# Altium integrated library FPGA Generic.IntLib: 1651 symbols (part 19 of 20)
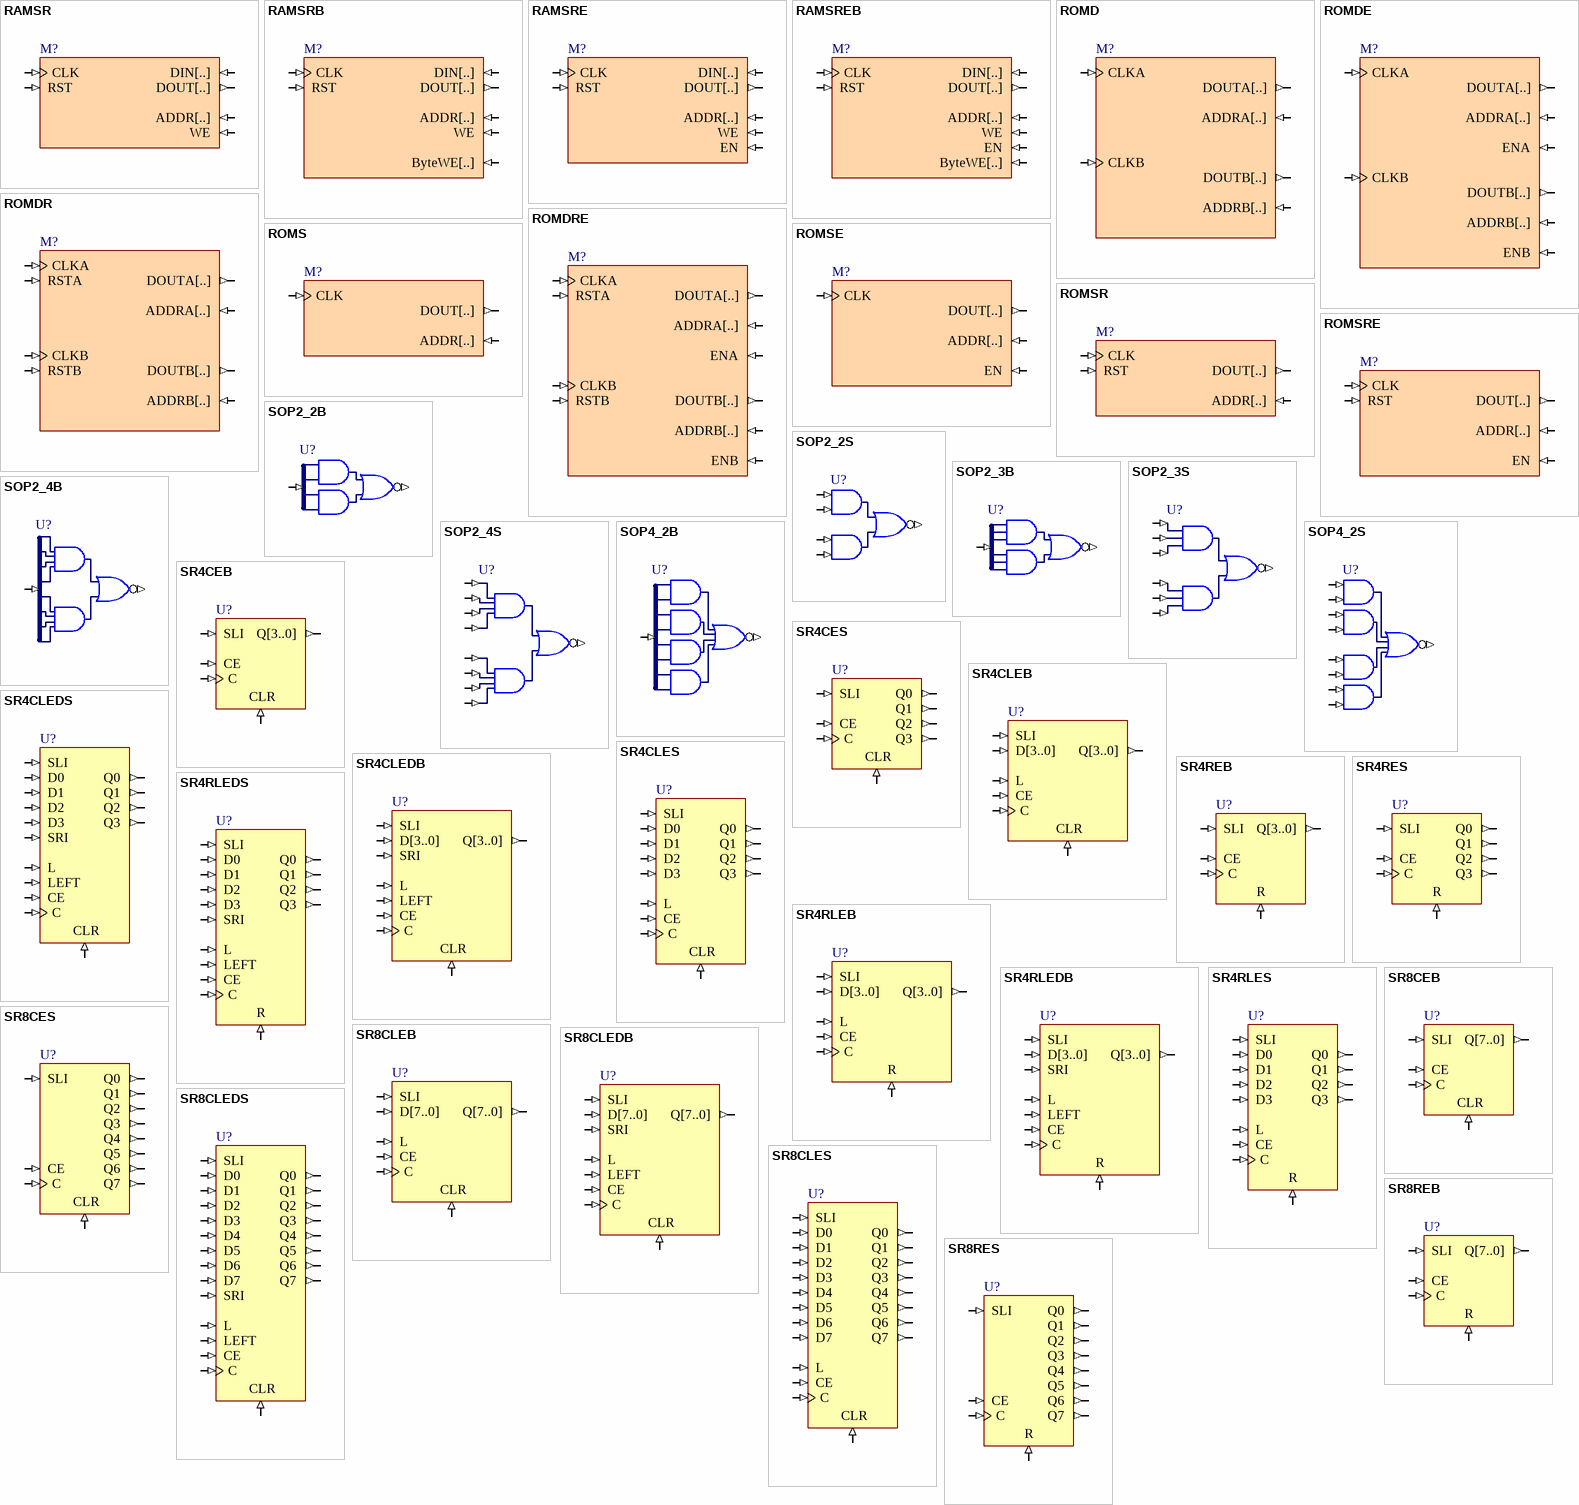
[diagram p61: symbols RAMSR to SR8RES]

## SR4CEB
designator U?
4-Bit Serial-In Parallel-Out Shift Registers with Clock Enable and Asynchronous Clear, Bus Version; ClockTrigger: Rising; Enable: High; PortSize: 4; ArchiveName: GENERIC; VHDLIB_SIM: GENERIC_LIB; Published: 29-Jan-2004; Publisher: Altium Limited; LastRevisionNo: 1.00.00; HelpURL: CR0118 FPGA Generic Library Guide.pdf#page=430; ComponentLink1URL: CR0141 FPGA Shift Register Resource Usage.pdf#page=2; ComponentLink1Description: Core &Resource Usage; FunctionalClass: Shift Register; Reset: Asynchronous; PortStyle: Bus Version
pins: C (in), CE (in), CLR (in), Q[3..0] (out), SLI (in)

## SR4CES
designator U?
4-Bit Serial-In Parallel-Out Shift Registers with Clock Enable and Asynchronous Clear, Single Pin Version; XilinxEquivalent: SR4CE; ClockTrigger: Rising; Enable: High; PortSize: 4; ArchiveName: GENERIC; VHDLIB_SIM: GENERIC_LIB; Published: 29-Jan-2004; Publisher: Altium Limited; LastRevisionNo: 1.00.00; HelpURL: CR0118 FPGA Generic Library Guide.pdf#page=430; ComponentLink1URL: CR0141 FPGA Shift Register Resource Usage.pdf#page=3; ComponentLink1Description: Core &Resource Usage; FunctionalClass: Shift Register; Reset: Asynchronous; PortStyle: Single Pin Version
pins: C (in), CE (in), CLR (in), Q0 (out), Q1 (out), Q2 (out), Q3 (out), SLI (in)

## SR4CLEB
designator U?
4-Bit Loadable Serial/Parallel-In Parallel-Out Shift Registers with Clock Enable and Asynchronous Clear, Bus Version; ClockTrigger: Rising; Enable: High; Loadable: True; PortSize: 4; ArchiveName: GENERIC; VHDLIB_SIM: GENERIC_LIB; Published: 29-Jan-2004; Publisher: Altium Limited; LastRevisionNo: 1.00.00; HelpURL: CR0118 FPGA Generic Library Guide.pdf#page=432; ComponentLink1URL: CR0141 FPGA Shift Register Resource Usage.pdf#page=4; ComponentLink1Description: Core &Resource Usage; FunctionalClass: Shift Register; Reset: Asynchronous; PortStyle: Bus Version
pins: C (in), CE (in), CLR (in), D[3..0] (in), L (in), Q[3..0] (out), SLI (in)

## SR4CLEDB
designator U?
4-Bit Loadable Serial/Parallel-In Parallel-Out Bidirectional Shift Registers with Clock Enable and Asynchronous Clear, Bus Version; ClockTrigger: Rising; Enable: High; Loadable: True; PortSize: 4; ArchiveName: GENERIC; VHDLIB_SIM: GENERIC_LIB; Published: 29-Jan-2004; Publisher: Altium Limited; LastRevisionNo: 1.00.00; HelpURL: CR0118 FPGA Generic Library Guide.pdf#page=434; ComponentLink1URL: CR0141 FPGA Shift Register Resource Usage.pdf#page=5; ComponentLink1Description: Core &Resource Usage; FunctionalClass: Shift Register; Reset: Asynchronous; Direction: Bidirectional; PortStyle: Bus Version
pins: C (in), CE (in), CLR (in), D[3..0] (in), L (in), LEFT (in), Q[3..0] (out), SLI (in), SRI (in)

## SR4CLEDS
designator U?
4-Bit Loadable Serial/Parallel-In Parallel-Out Bidirectional Shift Registers with Clock Enable and Asynchronous Clear, Single Pin Version; XilinxEquivalent: SR4CLED; ClockTrigger: Rising; Enable: High; Loadable: True; PortSize: 4; ArchiveName: GENERIC; VHDLIB_SIM: GENERIC_LIB; Published: 29-Jan-2004; Publisher: Altium Limited; LastRevisionNo: 1.00.00; HelpURL: CR0118 FPGA Generic Library Guide.pdf#page=434; ComponentLink1URL: CR0141 FPGA Shift Register Resource Usage.pdf#page=6; ComponentLink1Description: Core &Resource Usage; FunctionalClass: Shift Register; Reset: Asynchronous; Direction: Bidirectional; PortStyle: Single Pin Version
pins: C (in), CE (in), CLR (in), D0 (in), D1 (in), D2 (in), D3 (in), L (in), LEFT (in), Q0 (out), Q1 (out), Q2 (out), Q3 (out), SLI (in), SRI (in)

## SR4CLES
designator U?
4-Bit Loadable Serial/Parallel-In Parallel-Out Shift Registers with Clock Enable and Asynchronous Clear, Single Pin Version; XilinxEquivalent: SR4CLE; ClockTrigger: Rising; Enable: High; Loadable: True; PortSize: 4; ArchiveName: GENERIC; VHDLIB_SIM: GENERIC_LIB; Published: 29-Jan-2004; Publisher: Altium Limited; LastRevisionNo: 1.00.00; HelpURL: CR0118 FPGA Generic Library Guide.pdf#page=432; ComponentLink1URL: CR0141 FPGA Shift Register Resource Usage.pdf#page=7; ComponentLink1Description: Core &Resource Usage; FunctionalClass: Shift Register; Reset: Asynchronous; PortStyle: Single Pin Version
pins: C (in), CE (in), CLR (in), D0 (in), D1 (in), D2 (in), D3 (in), L (in), Q0 (out), Q1 (out), Q2 (out), Q3 (out), SLI (in)

## SR4REB
designator U?
4-Bit Serial-In Parallel-Out Shift Registers with Clock Enable and Synchronous Reset, Bus Version; ClockTrigger: Rising; Enable: High; PortSize: 4; ArchiveName: GENERIC; VHDLIB_SIM: GENERIC_LIB; Published: 29-Jan-2004; Publisher: Altium Limited; LastRevisionNo: 1.00.00; HelpURL: CR0118 FPGA Generic Library Guide.pdf#page=437; ComponentLink1URL: CR0141 FPGA Shift Register Resource Usage.pdf#page=8; ComponentLink1Description: Core &Resource Usage; FunctionalClass: Shift Register; Reset: Synchronous; PortStyle: Bus Version
pins: C (in), CE (in), Q[3..0] (out), R (in), SLI (in)

## SR4RES
designator U?
4-Bit Serial-In Parallel-Out Shift Registers with Clock Enable and Synchronous Reset, Single Pin Version; XilinxEquivalent: SR4RE; ClockTrigger: Rising; Enable: High; PortSize: 4; ArchiveName: GENERIC; VHDLIB_SIM: GENERIC_LIB; Published: 29-Jan-2004; Publisher: Altium Limited; LastRevisionNo: 1.00.00; HelpURL: CR0118 FPGA Generic Library Guide.pdf#page=437; ComponentLink1URL: CR0141 FPGA Shift Register Resource Usage.pdf#page=9; ComponentLink1Description: Core &Resource Usage; FunctionalClass: Shift Register; Reset: Synchronous; PortStyle: Single Pin Version
pins: C (in), CE (in), Q0 (out), Q1 (out), Q2 (out), Q3 (out), R (in), SLI (in)

## SR4RLEB
designator U?
4-Bit Loadable Serial/Parallel-In Parallel-Out Shift Registers with Clock Enable and Synchronous Reset, Bus Version; ClockTrigger: Rising; Enable: High; Loadable: True; PortSize: 4; ArchiveName: GENERIC; VHDLIB_SIM: GENERIC_LIB; Published: 29-Jan-2004; Publisher: Altium Limited; LastRevisionNo: 1.00.00; HelpURL: CR0118 FPGA Generic Library Guide.pdf#page=439; ComponentLink1URL: CR0141 FPGA Shift Register Resource Usage.pdf#page=10; ComponentLink1Description: Core &Resource Usage; FunctionalClass: Shift Register; Reset: Synchronous; PortStyle: Bus Version
pins: C (in), CE (in), D[3..0] (in), L (in), Q[3..0] (out), R (in), SLI (in)

## SR4RLEDB
designator U?
4-Bit Loadable Serial/Parallel-In Parallel-Out Bidirectional Shift Registers with Clock Enable and Synchronous Reset, Bus Version; ClockTrigger: Rising; Enable: High; Loadable: True; PortSize: 4; ArchiveName: GENERIC; VHDLIB_SIM: GENERIC_LIB; Published: 29-Jan-2004; Publisher: Altium Limited; LastRevisionNo: 1.00.00; HelpURL: CR0118 FPGA Generic Library Guide.pdf#page=441; ComponentLink1URL: CR0141 FPGA Shift Register Resource Usage.pdf#page=11; ComponentLink1Description: Core &Resource Usage; FunctionalClass: Shift Register; Reset: Synchronous; Direction: Bidirectional; PortStyle: Bus Version
pins: C (in), CE (in), D[3..0] (in), L (in), LEFT (in), Q[3..0] (out), R (in), SLI (in), SRI (in)

## SR4RLEDS
designator U?
4-Bit Loadable Serial/Parallel-In Parallel-Out Bidirectional Shift Registers with Clock Enable and Synchronous Reset, Single Pin Version; XilinxEquivalent: SR4RLED; ClockTrigger: Rising; Enable: High; Loadable: True; PortSize: 4; ArchiveName: GENERIC; VHDLIB_SIM: GENERIC_LIB; Published: 29-Jan-2004; Publisher: Altium Limited; LastRevisionNo: 1.00.00; HelpURL: CR0118 FPGA Generic Library Guide.pdf#page=441; ComponentLink1URL: CR0141 FPGA Shift Register Resource Usage.pdf#page=12; ComponentLink1Description: Core &Resource Usage; FunctionalClass: Shift Register; Reset: Synchronous; Direction: Bidirectional; PortStyle: Single Pin Version
pins: C (in), CE (in), D0 (in), D1 (in), D2 (in), D3 (in), L (in), LEFT (in), Q0 (out), Q1 (out), Q2 (out), Q3 (out), R (in), SLI (in), SRI (in)

## SR4RLES
designator U?
4-Bit Loadable Serial/Parallel-In Parallel-Out Shift Registers with Clock Enable and Synchronous Reset, Single Pin Version; XilinxEquivalent: SR4RLE; ClockTrigger: Rising; Enable: High; Loadable: True; PortSize: 4; ArchiveName: GENERIC; VHDLIB_SIM: GENERIC_LIB; Published: 29-Jan-2004; Publisher: Altium Limited; LastRevisionNo: 1.00.00; HelpURL: CR0118 FPGA Generic Library Guide.pdf#page=439; ComponentLink1URL: CR0141 FPGA Shift Register Resource Usage.pdf#page=13; ComponentLink1Description: Core &Resource Usage; FunctionalClass: Shift Register; Reset: Synchronous; PortStyle: Single Pin Version
pins: C (in), CE (in), D0 (in), D1 (in), D2 (in), D3 (in), L (in), Q0 (out), Q1 (out), Q2 (out), Q3 (out), R (in), SLI (in)

## SR8CEB
designator U?
8-Bit Serial-In Parallel-Out Shift Registers with Clock Enable and Asynchronous Clear, Bus Version; XilinxEquivalent: SR8CE; ClockTrigger: Rising; Enable: High; PortSize: 8; ArchiveName: GENERIC; VHDLIB_SIM: GENERIC_LIB; Published: 29-Jan-2004; Publisher: Altium Limited; LastRevisionNo: 1.00.00; HelpURL: CR0118 FPGA Generic Library Guide.pdf#page=430; ComponentLink1URL: CR0141 FPGA Shift Register Resource Usage.pdf#page=14; ComponentLink1Description: Core &Resource Usage; FunctionalClass: Shift Register; Reset: Asynchronous; PortStyle: Bus Version
pins: C (in), CE (in), CLR (in), Q[7..0] (out), SLI (in)

## SR8CES
designator U?
8-Bit Serial-In Parallel-Out Shift Registers with Clock Enable and Asynchronous Clear, Single Pin  Version; ClockTrigger: Rising; Enable: High; PortSize: 8; ArchiveName: GENERIC; VHDLIB_SIM: GENERIC_LIB; Published: 29-Jan-2004; Publisher: Altium Limited; LastRevisionNo: 1.00.00; HelpURL: CR0118 FPGA Generic Library Guide.pdf#page=430; ComponentLink1URL: CR0141 FPGA Shift Register Resource Usage.pdf#page=15; ComponentLink1Description: Core &Resource Usage; FunctionalClass: Shift Register; Reset: Asynchronous; PortStyle: Single Pin Version
pins: C (in), CE (in), CLR (in), Q0 (out), Q1 (out), Q2 (out), Q3 (out), Q4 (out), Q5 (out), Q6 (out), Q7 (out), SLI (in)

## SR8CLEB
designator U?
8-Bit Loadable Serial/Parallel-In Parallel-Out Shift Registers with Clock Enable and Asynchronous Clear, Bus Version; XilinxEquivalent: SR8CLE; ClockTrigger: Rising; Enable: High; Loadable: True; PortSize: 8; ArchiveName: GENERIC; VHDLIB_SIM: GENERIC_LIB; Published: 29-Jan-2004; Publisher: Altium Limited; LastRevisionNo: 1.00.00; HelpURL: CR0118 FPGA Generic Library Guide.pdf#page=432; ComponentLink1URL: CR0141 FPGA Shift Register Resource Usage.pdf#page=16; ComponentLink1Description: Core &Resource Usage; FunctionalClass: Shift Register; Reset: Asynchronous; PortStyle: Bus Version
pins: C (in), CE (in), CLR (in), D[7..0] (in), L (in), Q[7..0] (out), SLI (in)

## SR8CLEDB
designator U?
8-Bit Loadable Serial/Parallel-In Parallel-Out Bidirectional Shift Registers with Clock Enable and Asynchronous Clear, Bus Version; XilinxEquivalent: SR8CLED; ClockTrigger: Rising; Enable: High; Loadable: True; PortSize: 8; ArchiveName: GENERIC; VHDLIB_SIM: GENERIC_LIB; Published: 29-Jan-2004; Publisher: Altium Limited; LastRevisionNo: 1.00.00; HelpURL: CR0118 FPGA Generic Library Guide.pdf#page=434; ComponentLink1URL: CR0141 FPGA Shift Register Resource Usage.pdf#page=17; ComponentLink1Description: Core &Resource Usage; FunctionalClass: Shift Register; Reset: Asynchronous; Direction: Bidirectional; PortStyle: Bus Version
pins: C (in), CE (in), CLR (in), D[7..0] (in), L (in), LEFT (in), Q[7..0] (out), SLI (in), SRI (in)

## SR8CLEDS
designator U?
8-Bit Loadable Serial/Parallel-In Parallel-Out Bidirectional Shift Registers with Clock Enable and Asynchronous Clear, Single Pin Version; ClockTrigger: Rising; Enable: High; Loadable: True; PortSize: 8; ArchiveName: GENERIC; VHDLIB_SIM: GENERIC_LIB; Published: 29-Jan-2004; Publisher: Altium Limited; LastRevisionNo: 1.00.00; HelpURL: CR0118 FPGA Generic Library Guide.pdf#page=434; ComponentLink1URL: CR0141 FPGA Shift Register Resource Usage.pdf#page=18; ComponentLink1Description: Core &Resource Usage; FunctionalClass: Shift Register; Reset: Asynchronous; Direction: Bidirectional; PortStyle: Single Pin Version
pins: C (in), CE (in), CLR (in), D0 (in), D1 (in), D2 (in), D3 (in), D4 (in), D5 (in), D6 (in), D7 (in), L (in), LEFT (in), Q0 (out), Q1 (out), Q2 (out), Q3 (out), Q4 (out), Q5 (out), Q6 (out), Q7 (out), SLI (in), SRI (in)

## SR8CLES
designator U?
8-Bit Loadable Serial/Parallel-In Parallel-Out Shift Registers with Clock Enable and Asynchronous Clear, Single Pin Version; ClockTrigger: Rising; Enable: High; Loadable: True; PortSize: 8; ArchiveName: GENERIC; VHDLIB_SIM: GENERIC_LIB; Published: 29-Jan-2004; Publisher: Altium Limited; LastRevisionNo: 1.00.00; HelpURL: CR0118 FPGA Generic Library Guide.pdf#page=432; ComponentLink1URL: CR0141 FPGA Shift Register Resource Usage.pdf#page=19; ComponentLink1Description: Core &Resource Usage; FunctionalClass: Shift Register; Reset: Asynchronous; PortStyle: Single Pin Version
pins: C (in), CE (in), CLR (in), D0 (in), D1 (in), D2 (in), D3 (in), D4 (in), D5 (in), D6 (in), D7 (in), L (in), Q0 (out), Q1 (out), Q2 (out), Q3 (out), Q4 (out), Q5 (out), Q6 (out), Q7 (out), SLI (in)

## SR8REB
designator U?
8-Bit Serial-In Parallel-Out Shift Registers with Clock Enable and Synchronous Reset, Bus Version; XilinxEquivalent: SR8RE; ClockTrigger: Rising; Enable: High; PortSize: 8; ArchiveName: GENERIC; VHDLIB_SIM: GENERIC_LIB; Published: 29-Jan-2004; Publisher: Altium Limited; LastRevisionNo: 1.00.00; HelpURL: CR0118 FPGA Generic Library Guide.pdf#page=437; ComponentLink1URL: CR0141 FPGA Shift Register Resource Usage.pdf#page=20; ComponentLink1Description: Core &Resource Usage; FunctionalClass: Shift Register; Reset: Synchronous; PortStyle: Bus Version
pins: C (in), CE (in), Q[7..0] (out), R (in), SLI (in)

## SR8RES
designator U?
8-Bit Serial-In Parallel-Out Shift Registers with Clock Enable and Synchronous Reset, Single Pin Version; ClockTrigger: Rising; Enable: High; PortSize: 8; ArchiveName: GENERIC; VHDLIB_SIM: GENERIC_LIB; Published: 29-Jan-2004; Publisher: Altium Limited; LastRevisionNo: 1.00.00; HelpURL: CR0118 FPGA Generic Library Guide.pdf#page=437; ComponentLink1URL: CR0141 FPGA Shift Register Resource Usage.pdf#page=21; ComponentLink1Description: Core &Resource Usage; FunctionalClass: Shift Register; Reset: Synchronous; PortStyle: Single Pin Version
pins: C (in), CE (in), Q0 (out), Q1 (out), Q2 (out), Q3 (out), Q4 (out), Q5 (out), Q6 (out), Q7 (out), R (in), SLI (in)

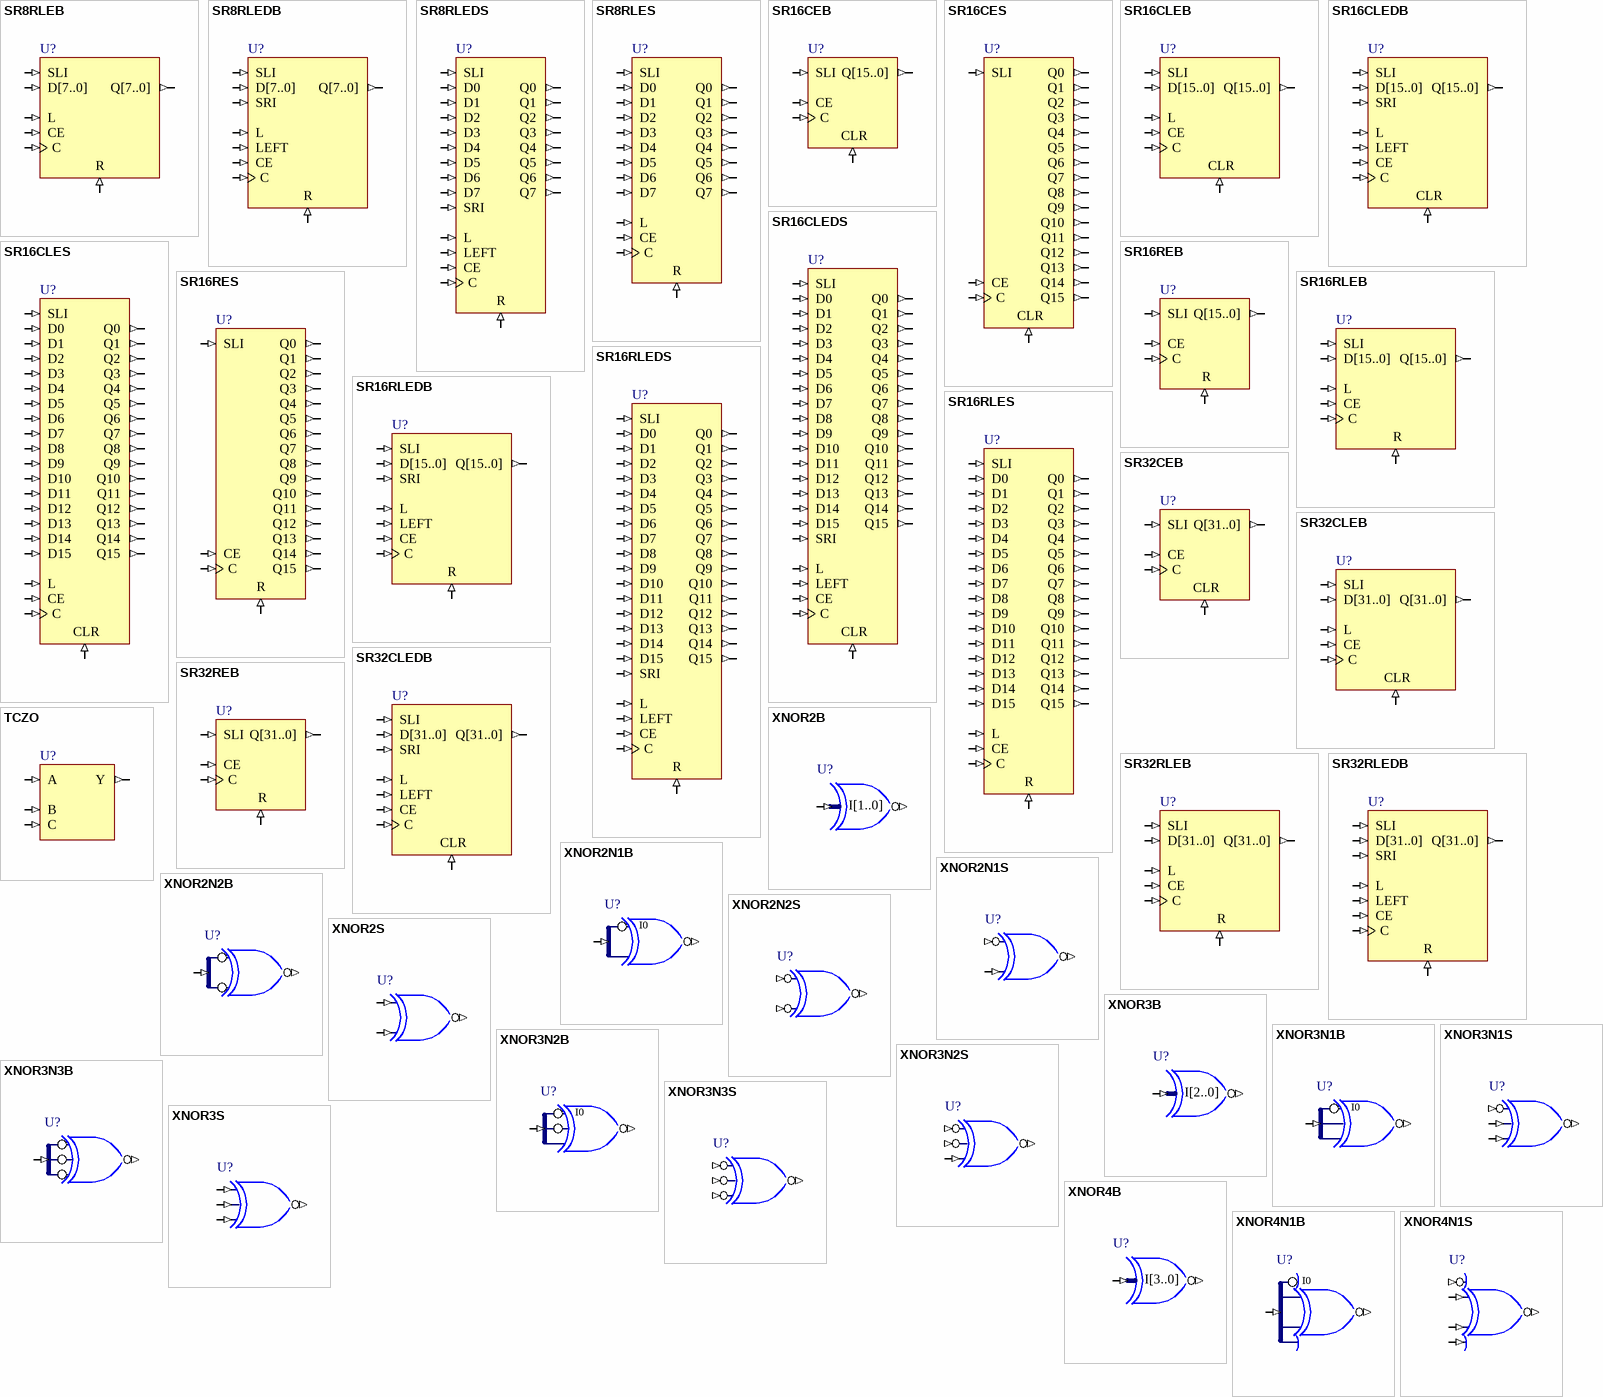
[diagram p40: symbols SR8RLEB to XNOR4N1S]

## SR8RLEB
designator U?
8-Bit Loadable Serial/Parallel-In Parallel-Out Shift Registers with Clock Enable and Synchronous Reset, Bus Version; XilinxEquivalent: SR8RLE; ClockTrigger: Rising; Enable: High; Loadable: True; PortSize: 8; ArchiveName: GENERIC; VHDLIB_SIM: GENERIC_LIB; Published: 29-Jan-2004; Publisher: Altium Limited; LastRevisionNo: 1.00.00; HelpURL: CR0118 FPGA Generic Library Guide.pdf#page=439; ComponentLink1URL: CR0141 FPGA Shift Register Resource Usage.pdf#page=22; ComponentLink1Description: Core &Resource Usage; FunctionalClass: Shift Register; Reset: Synchronous; PortStyle: Bus Version
pins: C (in), CE (in), D[7..0] (in), L (in), Q[7..0] (out), R (in), SLI (in)

## SR8RLEDB
designator U?
8-Bit Loadable Serial/Parallel-In Parallel-Out Bidirectional Shift Registers with Clock Enable and Synchronous Reset, Bus Version; XilinxEquivalent: SR8RLED; ClockTrigger: Rising; Enable: High; Loadable: True; PortSize: 8; ArchiveName: GENERIC; VHDLIB_SIM: GENERIC_LIB; Published: 29-Jan-2004; Publisher: Altium Limited; LastRevisionNo: 1.00.00; HelpURL: CR0118 FPGA Generic Library Guide.pdf#page=441; ComponentLink1URL: CR0141 FPGA Shift Register Resource Usage.pdf#page=23; ComponentLink1Description: Core &Resource Usage; FunctionalClass: Shift Register; Reset: Synchronous; Direction: Bidirectional; PortStyle: Bus Version
pins: C (in), CE (in), D[7..0] (in), L (in), LEFT (in), Q[7..0] (out), R (in), SLI (in), SRI (in)

## SR8RLEDS
designator U?
8-Bit Loadable Serial/Parallel-In Parallel-Out Bidirectional Shift Registers with Clock Enable and Synchronous Reset, Single Pin Version; ClockTrigger: Rising; Enable: High; Loadable: True; PortSize: 8; ArchiveName: GENERIC; VHDLIB_SIM: GENERIC_LIB; Published: 29-Jan-2004; Publisher: Altium Limited; LastRevisionNo: 1.00.00; HelpURL: CR0118 FPGA Generic Library Guide.pdf#page=441; ComponentLink1URL: CR0141 FPGA Shift Register Resource Usage.pdf#page=24; ComponentLink1Description: Core &Resource Usage; FunctionalClass: Shift Register; Reset: Synchronous; Direction: Bidirectional; PortStyle: Single Pin Version
pins: C (in), CE (in), D0 (in), D1 (in), D2 (in), D3 (in), D4 (in), D5 (in), D6 (in), D7 (in), L (in), LEFT (in), Q0 (out), Q1 (out), Q2 (out), Q3 (out), Q4 (out), Q5 (out), Q6 (out), Q7 (out), R (in), SLI (in), SRI (in)

## SR8RLES
designator U?
8-Bit Loadable Serial/Parallel-In Parallel-Out Shift Registers with Clock Enable and Synchronous Reset, Single Pin Version; ClockTrigger: Rising; Enable: High; Loadable: True; PortSize: 8; ArchiveName: GENERIC; VHDLIB_SIM: GENERIC_LIB; Published: 29-Jan-2004; Publisher: Altium Limited; LastRevisionNo: 1.00.00; HelpURL: CR0118 FPGA Generic Library Guide.pdf#page=439; ComponentLink1URL: CR0141 FPGA Shift Register Resource Usage.pdf#page=25; ComponentLink1Description: Core &Resource Usage; FunctionalClass: Shift Register; Reset: Synchronous; PortStyle: Single Pin Version
pins: C (in), CE (in), D0 (in), D1 (in), D2 (in), D3 (in), D4 (in), D5 (in), D6 (in), D7 (in), L (in), Q0 (out), Q1 (out), Q2 (out), Q3 (out), Q4 (out), Q5 (out), Q6 (out), Q7 (out), R (in), SLI (in)

## SR16CEB
designator U?
16-Bit Serial-In Parallel-Out Shift Registers with Clock Enable and Asynchronous Clear, Bus Version; XilinxEquivalent: SR16CE; ClockTrigger: Rising; Enable: High; PortSize: 16; ArchiveName: GENERIC; VHDLIB_SIM: GENERIC_LIB; Published: 29-Jan-2004; Publisher: Altium Limited; LastRevisionNo: 1.00.00; HelpURL: CR0118 FPGA Generic Library Guide.pdf#page=430; ComponentLink1URL: CR0141 FPGA Shift Register Resource Usage.pdf#page=26; ComponentLink1Description: Core &Resource Usage; FunctionalClass: Shift Register; Reset: Asynchronous; PortStyle: Bus Version
pins: C (in), CE (in), CLR (in), Q[15..0] (out), SLI (in)

## SR16CES
designator U?
16-Bit Serial-In Parallel-Out Shift Registers with Clock Enable and Asynchronous Clear, Single Pin Version; ClockTrigger: Rising; Enable: High; PortSize: 16; ArchiveName: GENERIC; VHDLIB_SIM: GENERIC_LIB; Published: 29-Jan-2004; Publisher: Altium Limited; LastRevisionNo: 1.00.00; HelpURL: CR0118 FPGA Generic Library Guide.pdf#page=430; ComponentLink1URL: CR0141 FPGA Shift Register Resource Usage.pdf#page=27; ComponentLink1Description: Core &Resource Usage; FunctionalClass: Shift Register; Reset: Asynchronous; PortStyle: Single Pin Version
pins: C (in), CE (in), CLR (in), Q0 (out), Q1 (out), Q2 (out), Q3 (out), Q4 (out), Q5 (out), Q6 (out), Q7 (out), Q8 (out), Q9 (out), Q10 (out), Q11 (out), Q12 (out), Q13 (out), Q14 (out), Q15 (out), SLI (in)

## SR16CLEB
designator U?
16-Bit Loadable Serial/Parallel-In Parallel-Out Shift Registers with Clock Enable and Asynchronous Clear, Bus Version; XilinxEquivalent: SR16CLE; ClockTrigger: Rising; Enable: High; Loadable: True; PortSize: 16; ArchiveName: GENERIC; VHDLIB_SIM: GENERIC_LIB; Published: 29-Jan-2004; Publisher: Altium Limited; LastRevisionNo: 1.00.00; HelpURL: CR0118 FPGA Generic Library Guide.pdf#page=432; ComponentLink1URL: CR0141 FPGA Shift Register Resource Usage.pdf#page=28; ComponentLink1Description: Core &Resource Usage; FunctionalClass: Shift Register; Reset: Asynchronous; PortStyle: Bus Version
pins: C (in), CE (in), CLR (in), D[15..0] (in), L (in), Q[15..0] (out), SLI (in)

## SR16CLEDB
designator U?
16-Bit Loadable Serial/Parallel-In Parallel-Out Bidirectional Shift Registers with Clock Enable and Asynchronous Clear, Bus Version; XilinxEquivalent: SR16CLED; ClockTrigger: Rising; Enable: High; Loadable: True; PortSize: 16; ArchiveName: GENERIC; VHDLIB_SIM: GENERIC_LIB; Published: 29-Jan-2004; Publisher: Altium Limited; LastRevisionNo: 1.00.00; HelpURL: CR0118 FPGA Generic Library Guide.pdf#page=434; ComponentLink1URL: CR0141 FPGA Shift Register Resource Usage.pdf#page=29; ComponentLink1Description: Core &Resource Usage; FunctionalClass: Shift Register; Reset: Asynchronous; Direction: Bidirectional; PortStyle: Bus Version
pins: C (in), CE (in), CLR (in), D[15..0] (in), L (in), LEFT (in), Q[15..0] (out), SLI (in), SRI (in)

## SR16CLEDS
designator U?
16-Bit Loadable Serial/Parallel-In Parallel-Out Bidirectional Shift Registers with Clock Enable and Asynchronous Clear, Single Pin Version; ClockTrigger: Rising; Enable: High; Loadable: True; PortSize: 16; ArchiveName: GENERIC; VHDLIB_SIM: GENERIC_LIB; Published: 29-Jan-2004; Publisher: Altium Limited; LastRevisionNo: 1.00.00; HelpURL: CR0118 FPGA Generic Library Guide.pdf#page=434; ComponentLink1URL: CR0141 FPGA Shift Register Resource Usage.pdf#page=30; ComponentLink1Description: Core &Resource Usage; FunctionalClass: Shift Register; Reset: Asynchronous; Direction: Bidirectional; PortStyle: Single Pin Version
pins: C (in), CE (in), CLR (in), D0 (in), D1 (in), D2 (in), D3 (in), D4 (in), D5 (in), D6 (in), D7 (in), D8 (in), D9 (in), D10 (in), D11 (in), D12 (in), D13 (in), D14 (in), D15 (in), L (in), LEFT (in), Q0 (out), Q1 (out), Q2 (out), Q3 (out), Q4 (out), Q5 (out), Q6 (out), Q7 (out), Q8 (out), Q9 (out), Q10 (out), Q11 (out), Q12 (out), Q13 (out), Q14 (out), Q15 (out), SLI (in), SRI (in)

## SR16CLES
designator U?
16-Bit Loadable Serial/Parallel-In Parallel-Out Shift Registers with Clock Enable and Asynchronous Clear, Single Pin Version; ClockTrigger: Rising; Enable: High; Loadable: True; PortSize: 16; ArchiveName: GENERIC; VHDLIB_SIM: GENERIC_LIB; Published: 29-Jan-2004; Publisher: Altium Limited; LastRevisionNo: 1.00.00; HelpURL: CR0118 FPGA Generic Library Guide.pdf#page=432; ComponentLink1URL: CR0141 FPGA Shift Register Resource Usage.pdf#page=31; ComponentLink1Description: Core &Resource Usage; FunctionalClass: Shift Register; Reset: Asynchronous; PortStyle: Single Pin Version
pins: C (in), CE (in), CLR (in), D0 (in), D1 (in), D2 (in), D3 (in), D4 (in), D5 (in), D6 (in), D7 (in), D8 (in), D9 (in), D10 (in), D11 (in), D12 (in), D13 (in), D14 (in), D15 (in), L (in), Q0 (out), Q1 (out), Q2 (out), Q3 (out), Q4 (out), Q5 (out), Q6 (out), Q7 (out), Q8 (out), Q9 (out), Q10 (out), Q11 (out), Q12 (out), Q13 (out), Q14 (out), Q15 (out), SLI (in)

## SR16REB
designator U?
16-Bit Serial-In Parallel-Out Shift Registers with Clock Enable and Synchronous Reset, Bus Version; XilinxEquivalent: SR16RE; ClockTrigger: Rising; Enable: High; PortSize: 16; ArchiveName: GENERIC; VHDLIB_SIM: GENERIC_LIB; Published: 29-Jan-2004; Publisher: Altium Limited; LastRevisionNo: 1.00.00; HelpURL: CR0118 FPGA Generic Library Guide.pdf#page=437; ComponentLink1URL: CR0141 FPGA Shift Register Resource Usage.pdf#page=32; ComponentLink1Description: Core &Resource Usage; FunctionalClass: Shift Register; Reset: Synchronous; PortStyle: Bus Version
pins: C (in), CE (in), Q[15..0] (out), R (in), SLI (in)

## SR16RES
designator U?
16-Bit Serial-In Parallel-Out Shift Registers with Clock Enable and Synchronous Reset, Single Pin Version; ClockTrigger: Rising; Enable: High; PortSize: 16; ArchiveName: GENERIC; VHDLIB_SIM: GENERIC_LIB; Published: 29-Jan-2004; Publisher: Altium Limited; LastRevisionNo: 1.00.00; HelpURL: CR0118 FPGA Generic Library Guide.pdf#page=437; ComponentLink1URL: CR0141 FPGA Shift Register Resource Usage.pdf#page=33; ComponentLink1Description: Core &Resource Usage; FunctionalClass: Shift Register; Reset: Synchronous; PortStyle: Single Pin Version
pins: C (in), CE (in), Q0 (out), Q1 (out), Q2 (out), Q3 (out), Q4 (out), Q5 (out), Q6 (out), Q7 (out), Q8 (out), Q9 (out), Q10 (out), Q11 (out), Q12 (out), Q13 (out), Q14 (out), Q15 (out), R (in), SLI (in)

## SR16RLEB
designator U?
16-Bit Loadable Serial/Parallel-In Parallel-Out Shift Registers with Clock Enable and Synchronous Reset, Bus Version; XilinxEquivalent: SR16RLE; ClockTrigger: Rising; Enable: High; Loadable: True; PortSize: 16; ArchiveName: GENERIC; VHDLIB_SIM: GENERIC_LIB; Published: 29-Jan-2004; Publisher: Altium Limited; LastRevisionNo: 1.00.00; HelpURL: CR0118 FPGA Generic Library Guide.pdf#page=439; ComponentLink1URL: CR0141 FPGA Shift Register Resource Usage.pdf#page=34; ComponentLink1Description: Core &Resource Usage; FunctionalClass: Shift Register; Reset: Synchronous; PortStyle: Bus Version
pins: C (in), CE (in), D[15..0] (in), L (in), Q[15..0] (out), R (in), SLI (in)

## SR16RLEDB
designator U?
16-Bit Loadable Serial/Parallel-In Parallel-Out Bidirectional Shift Registers with Clock Enable and Synchronous Reset, Bus Version; XilinxEquivalent: SR16RLED; ClockTrigger: Rising; Enable: High; Loadable: True; PortSize: 16; ArchiveName: GENERIC; VHDLIB_SIM: GENERIC_LIB; Published: 29-Jan-2004; Publisher: Altium Limited; LastRevisionNo: 1.00.00; HelpURL: CR0118 FPGA Generic Library Guide.pdf#page=441; ComponentLink1URL: CR0141 FPGA Shift Register Resource Usage.pdf#page=35; ComponentLink1Description: Core &Resource Usage; FunctionalClass: Shift Register; Reset: Synchronous; Direction: Bidirectional; PortStyle: Bus Version
pins: C (in), CE (in), D[15..0] (in), L (in), LEFT (in), Q[15..0] (out), R (in), SLI (in), SRI (in)

## SR16RLEDS
designator U?
16-Bit Loadable Serial/Parallel-In Parallel-Out Bidirectional Shift Registers with Clock Enable and Synchronous Reset, Single Pin Version; ClockTrigger: Rising; Enable: High; Loadable: True; PortSize: 16; ArchiveName: GENERIC; VHDLIB_SIM: GENERIC_LIB; Published: 29-Jan-2004; Publisher: Altium Limited; LastRevisionNo: 1.00.00; HelpURL: CR0118 FPGA Generic Library Guide.pdf#page=441; ComponentLink1URL: CR0141 FPGA Shift Register Resource Usage.pdf#page=36; ComponentLink1Description: Core &Resource Usage; FunctionalClass: Shift Register; Reset: Synchronous; Direction: Bidirectional; PortStyle: Single Pin Version
pins: C (in), CE (in), D0 (in), D1 (in), D2 (in), D3 (in), D4 (in), D5 (in), D6 (in), D7 (in), D8 (in), D9 (in), D10 (in), D11 (in), D12 (in), D13 (in), D14 (in), D15 (in), L (in), LEFT (in), Q0 (out), Q1 (out), Q2 (out), Q3 (out), Q4 (out), Q5 (out), Q6 (out), Q7 (out), Q8 (out), Q9 (out), Q10 (out), Q11 (out), Q12 (out), Q13 (out), Q14 (out), Q15 (out), R (in), SLI (in), SRI (in)

## SR16RLES
designator U?
16-Bit Loadable Serial/Parallel-In Parallel-Out Shift Registers with Clock Enable and Synchronous Reset, Single Pin Version; ClockTrigger: Rising; Enable: High; Loadable: True; PortSize: 16; ArchiveName: GENERIC; VHDLIB_SIM: GENERIC_LIB; Published: 29-Jan-2004; Publisher: Altium Limited; LastRevisionNo: 1.00.00; HelpURL: CR0118 FPGA Generic Library Guide.pdf#page=439; ComponentLink1URL: CR0141 FPGA Shift Register Resource Usage.pdf#page=37; ComponentLink1Description: Core &Resource Usage; FunctionalClass: Shift Register; Reset: Synchronous; PortStyle: Single Pin Version
pins: C (in), CE (in), D0 (in), D1 (in), D2 (in), D3 (in), D4 (in), D5 (in), D6 (in), D7 (in), D8 (in), D9 (in), D10 (in), D11 (in), D12 (in), D13 (in), D14 (in), D15 (in), L (in), Q0 (out), Q1 (out), Q2 (out), Q3 (out), Q4 (out), Q5 (out), Q6 (out), Q7 (out), Q8 (out), Q9 (out), Q10 (out), Q11 (out), Q12 (out), Q13 (out), Q14 (out), Q15 (out), R (in), SLI (in)

## SR32CEB
designator U?
32-Bit Serial-In Parallel-Out Shift Registers with Clock Enable and Asynchronous Clear, Bus Version; ClockTrigger: Rising; Enable: High; PortSize: 32; ArchiveName: GENERIC; VHDLIB_SIM: GENERIC_LIB; Published: 31-May-2004; Publisher: Altium Limited; LastRevisionNo: 1.00.00; HelpURL: CR0118 FPGA Generic Library Guide.pdf#page=430; ComponentLink1URL: CR0141 FPGA Shift Register Resource Usage.pdf#page=38; ComponentLink1Description: Core &Resource Usage; FunctionalClass: Shift Register; Reset: Asynchronous; PortStyle: Bus Version
pins: C (in), CE (in), CLR (in), Q[31..0] (out), SLI (in)

## SR32CLEB
designator U?
32-Bit Loadable Serial/Parallel-In Parallel-Out Shift Registers with Clock Enable and Asynchronous Clear, Bus Version; ClockTrigger: Rising; Enable: High; Loadable: True; PortSize: 32; ArchiveName: GENERIC; VHDLIB_SIM: GENERIC_LIB; Published: 31-May-2004; Publisher: Altium Limited; LastRevisionNo: 1.00.00; HelpURL: CR0118 FPGA Generic Library Guide.pdf#page=432; ComponentLink1URL: CR0141 FPGA Shift Register Resource Usage.pdf#page=39; ComponentLink1Description: Core &Resource Usage; FunctionalClass: Shift Register; Reset: Asynchronous; PortStyle: Bus Version
pins: C (in), CE (in), CLR (in), D[31..0] (in), L (in), Q[31..0] (out), SLI (in)

## SR32CLEDB
designator U?
32-Bit Loadable Serial/Parallel-In Parallel-Out Bidirectional Shift Registers with Clock Enable and Asynchronous Clear, Bus Version; ClockTrigger: Rising; Enable: High; Loadable: True; PortSize: 32; ArchiveName: GENERIC; VHDLIB_SIM: GENERIC_LIB; Published: 31-May-2004; Publisher: Altium Limited; LastRevisionNo: 1.00.00; HelpURL: CR0118 FPGA Generic Library Guide.pdf#page=434; ComponentLink1URL: CR0141 FPGA Shift Register Resource Usage.pdf#page=40; ComponentLink1Description: Core &Resource Usage; FunctionalClass: Shift Register; Reset: Asynchronous; Direction: Bidirectional; PortStyle: Bus Version
pins: C (in), CE (in), CLR (in), D[31..0] (in), L (in), LEFT (in), Q[31..0] (out), SLI (in), SRI (in)

## SR32REB
designator U?
32-Bit Serial-In Parallel-Out Shift Registers with Clock Enable and Synchronous Reset, Bus Version; ClockTrigger: Rising; Enable: High; PortSize: 32; ArchiveName: GENERIC; VHDLIB_SIM: GENERIC_LIB; Published: 31-May-2004; Publisher: Altium Limited; LastRevisionNo: 1.00.00; HelpURL: CR0118 FPGA Generic Library Guide.pdf#page=437; ComponentLink1URL: CR0141 FPGA Shift Register Resource Usage.pdf#page=41; ComponentLink1Description: Core &Resource Usage; FunctionalClass: Shift Register; Reset: Synchronous; PortStyle: Bus Version
pins: C (in), CE (in), Q[31..0] (out), R (in), SLI (in)

## SR32RLEB
designator U?
32-Bit Loadable Serial/Parallel-In Parallel-Out Shift Registers with Clock Enable and Synchronous Reset, Bus Version; ClockTrigger: Rising; Enable: High; Loadable: True; PortSize: 32; ArchiveName: GENERIC; VHDLIB_SIM: GENERIC_LIB; Published: 31-May-2004; Publisher: Altium Limited; LastRevisionNo: 1.00.00; HelpURL: CR0118 FPGA Generic Library Guide.pdf#page=439; ComponentLink1URL: CR0141 FPGA Shift Register Resource Usage.pdf#page=42; ComponentLink1Description: Core &Resource Usage; FunctionalClass: Shift Register; Reset: Synchronous; PortStyle: Bus Version
pins: C (in), CE (in), D[31..0] (in), L (in), Q[31..0] (out), R (in), SLI (in)

## SR32RLEDB
designator U?
32-Bit Loadable Serial/Parallel-In Parallel-Out Bidirectional Shift Registers with Clock Enable and Synchronous Reset, Bus Version; ClockTrigger: Rising; Enable: High; Loadable: True; PortSize: 32; ArchiveName: GENERIC; VHDLIB_SIM: GENERIC_LIB; Published: 31-May-2004; Publisher: Altium Limited; LastRevisionNo: 1.00.00; HelpURL: CR0118 FPGA Generic Library Guide.pdf#page=441; ComponentLink1URL: CR0141 FPGA Shift Register Resource Usage.pdf#page=43; ComponentLink1Description: Core &Resource Usage; FunctionalClass: Shift Register; Reset: Synchronous; Direction: Bidirectional; PortStyle: Bus Version
pins: C (in), CE (in), D[31..0] (in), L (in), LEFT (in), Q[31..0] (out), R (in), SLI (in), SRI (in)

## TCZO
designator U?
True/Complement, Zero/One Element; FunctionalClass: Logic Primitive; SubClass: TCZO; ArchiveName: GENERIC; VHDLIB_SIM: GENERIC_LIB; Published: 29-Jan-2004; Publisher: Altium Limited; LastRevisionNo: 1.00.00; HelpURL: CR0118 FPGA Generic Library Guide.pdf#page=444; ComponentLink1URL: CR0136 FPGA Logic Primitive Resource Usage.pdf#page=246; ComponentLink1Description: Core &Resource Usage
pins: A (in), B (in), C (in), Y (out)

## XNOR2B
designator U?
2-Input Exclusive-NOR Gate, Bus Version; FunctionalClass: Logic Primitive; SubClass: XNOR; PortSize: 2; ArchiveName: GENERIC; VHDLIB_SIM: GENERIC_LIB; Published: 29-Jan-2004; Publisher: Altium Limited; LastRevisionNo: 1.00.00; HelpURL: CR0118 FPGA Generic Library Guide.pdf#page=445; ComponentLink1URL: CR0136 FPGA Logic Primitive Resource Usage.pdf#page=247; ComponentLink1Description: Core &Resource Usage; PortStyle: Bus Version
pins: I[1..0] (in), O (out)

## XNOR2N1B
designator U?
2-Input Exclusive-NOR Gate with Active Low A Input, Bus Version; FunctionalClass: Logic Primitive; SubClass: XNOR; PortSize: 2; ArchiveName: GENERIC; VHDLIB_SIM: GENERIC_LIB; Published: 29-Jan-2004; Publisher: Altium Limited; LastRevisionNo: 1.00.00; HelpURL: CR0118 FPGA Generic Library Guide.pdf#page=445; ComponentLink1URL: CR0136 FPGA Logic Primitive Resource Usage.pdf#page=248; ComponentLink1Description: Core &Resource Usage; PortStyle: Bus Version
pins: I[1..0] (in), O (out)
text: I0

## XNOR2N1S
designator U?
2-Input Exclusive-NOR Gate with Active Low A Input, Single Pin Version; XilinxEquivalent: XNOR2B1; FunctionalClass: Logic Primitive; SubClass: XNOR; PortSize: 2; ArchiveName: GENERIC; VHDLIB_SIM: GENERIC_LIB; Published: 29-Jan-2004; Publisher: Altium Limited; LastRevisionNo: 1.00.00; HelpURL: CR0118 FPGA Generic Library Guide.pdf#page=445; ComponentLink1URL: CR0136 FPGA Logic Primitive Resource Usage.pdf#page=249; ComponentLink1Description: Core &Resource Usage; PortStyle: Single Pin Version
pins: I0 (in), I1 (in), O (out)

## XNOR2N2B
designator U?
2-Input Exclusive-NOR Gate with Active Low A and B Inputs, Bus Version; FunctionalClass: Logic Primitive; SubClass: XNOR; PortSize: 2; ArchiveName: GENERIC; VHDLIB_SIM: GENERIC_LIB; Published: 29-Jan-2004; Publisher: Altium Limited; LastRevisionNo: 1.00.00; HelpURL: CR0118 FPGA Generic Library Guide.pdf#page=445; ComponentLink1URL: CR0136 FPGA Logic Primitive Resource Usage.pdf#page=250; ComponentLink1Description: Core &Resource Usage; PortStyle: Bus Version
pins: I[1..0] (in), O (out)

## XNOR2N2S
designator U?
2-Input Exclusive-NOR Gate with Active Low A and B Inputs, Single Pin Version; XilinxEquivalent: XNOR2B2; FunctionalClass: Logic Primitive; SubClass: XNOR; PortSize: 2; ArchiveName: GENERIC; VHDLIB_SIM: GENERIC_LIB; Published: 29-Jan-2004; Publisher: Altium Limited; LastRevisionNo: 1.00.00; HelpURL: CR0118 FPGA Generic Library Guide.pdf#page=445; ComponentLink1URL: CR0136 FPGA Logic Primitive Resource Usage.pdf#page=251; ComponentLink1Description: Core &Resource Usage; PortStyle: Single Pin Version
pins: I0 (in), I1 (in), O (out)

## XNOR2S
designator U?
2-Input Exclusive-NOR Gate, Single Pin Version; XilinxEquivalent: XNOR2; FunctionalClass: Logic Primitive; SubClass: XNOR; PortSize: 2; ArchiveName: GENERIC; VHDLIB_SIM: GENERIC_LIB; Published: 29-Jan-2004; Publisher: Altium Limited; LastRevisionNo: 1.00.00; HelpURL: CR0118 FPGA Generic Library Guide.pdf#page=445; ComponentLink1URL: CR0136 FPGA Logic Primitive Resource Usage.pdf#page=252; ComponentLink1Description: Core &Resource Usage; PortStyle: Single Pin Version
pins: I0 (in), I1 (in), O (out)

## XNOR3B
designator U?
3-Input Exclusive-NOR Gate, Bus Version; FunctionalClass: Logic Primitive; SubClass: XNOR; PortSize: 3; ArchiveName: GENERIC; VHDLIB_SIM: GENERIC_LIB; Published: 29-Jan-2004; Publisher: Altium Limited; LastRevisionNo: 1.00.00; HelpURL: CR0118 FPGA Generic Library Guide.pdf#page=445; ComponentLink1URL: CR0136 FPGA Logic Primitive Resource Usage.pdf#page=253; ComponentLink1Description: Core &Resource Usage; PortStyle: Bus Version
pins: I[2..0] (in), O (out)

## XNOR3N1B
designator U?
3-Input Exclusive-NOR Gate with Active Low A Input, Bus Version; FunctionalClass: Logic Primitive; SubClass: XNOR; PortSize: 3; ArchiveName: GENERIC; VHDLIB_SIM: GENERIC_LIB; Published: 29-Jan-2004; Publisher: Altium Limited; LastRevisionNo: 1.00.00; HelpURL: CR0118 FPGA Generic Library Guide.pdf#page=445; ComponentLink1URL: CR0136 FPGA Logic Primitive Resource Usage.pdf#page=254; ComponentLink1Description: Core &Resource Usage; PortStyle: Bus Version
pins: I[2..0] (in), O (out)
text: I0

## XNOR3N1S
designator U?
3-Input Exclusive-NOR Gate with Active Low A Input, Single Pin Version; XilinxEquivalent: XNOR3B1; FunctionalClass: Logic Primitive; SubClass: XNOR; PortSize: 3; ArchiveName: GENERIC; VHDLIB_SIM: GENERIC_LIB; Published: 29-Jan-2004; Publisher: Altium Limited; LastRevisionNo: 1.00.00; HelpURL: CR0118 FPGA Generic Library Guide.pdf#page=445; ComponentLink1URL: CR0136 FPGA Logic Primitive Resource Usage.pdf#page=255; ComponentLink1Description: Core &Resource Usage; PortStyle: Single Pin Version
pins: I0 (in), I1 (in), I2 (in), O (out)

## XNOR3N2B
designator U?
3-Input Exclusive-NOR Gate with Active Low A and B Inputs, Bus Version; FunctionalClass: Logic Primitive; SubClass: XNOR; PortSize: 3; ArchiveName: GENERIC; VHDLIB_SIM: GENERIC_LIB; Published: 29-Jan-2004; Publisher: Altium Limited; LastRevisionNo: 1.00.00; HelpURL: CR0118 FPGA Generic Library Guide.pdf#page=445; ComponentLink1URL: CR0136 FPGA Logic Primitive Resource Usage.pdf#page=256; ComponentLink1Description: Core &Resource Usage; PortStyle: Bus Version
pins: I[2..0] (in), O (out)
text: I0

## XNOR3N2S
designator U?
3-Input Exclusive-NOR Gate with Active Low A and B Inputs, Single Pin Version; XilinxEquivalent: XNOR3B2; FunctionalClass: Logic Primitive; SubClass: XNOR; PortSize: 3; ArchiveName: GENERIC; VHDLIB_SIM: GENERIC_LIB; Published: 29-Jan-2004; Publisher: Altium Limited; LastRevisionNo: 1.00.00; HelpURL: CR0118 FPGA Generic Library Guide.pdf#page=445; ComponentLink1URL: CR0136 FPGA Logic Primitive Resource Usage.pdf#page=257; ComponentLink1Description: Core &Resource Usage; PortStyle: Single Pin Version
pins: I0 (in), I1 (in), I2 (in), O (out)

## XNOR3N3B
designator U?
3-Input Exclusive-NOR Gate with Active Low A, B and C Inputs, Bus Version; FunctionalClass: Logic Primitive; SubClass: XNOR; PortSize: 3; ArchiveName: GENERIC; VHDLIB_SIM: GENERIC_LIB; Published: 29-Jan-2004; Publisher: Altium Limited; LastRevisionNo: 1.00.00; HelpURL: CR0118 FPGA Generic Library Guide.pdf#page=445; ComponentLink1URL: CR0136 FPGA Logic Primitive Resource Usage.pdf#page=258; ComponentLink1Description: Core &Resource Usage; PortStyle: Bus Version
pins: I[2..0] (in), O (out)

## XNOR3N3S
designator U?
3-Input Exclusive-NOR Gate with Active Low A, B and C Inputs, Single Pin Version; XilinxEquivalent: XNOR3B3; FunctionalClass: Logic Primitive; SubClass: XNOR; PortSize: 3; ArchiveName: GENERIC; VHDLIB_SIM: GENERIC_LIB; Published: 29-Jan-2004; Publisher: Altium Limited; LastRevisionNo: 1.00.00; HelpURL: CR0118 FPGA Generic Library Guide.pdf#page=445; ComponentLink1URL: CR0136 FPGA Logic Primitive Resource Usage.pdf#page=259; ComponentLink1Description: Core &Resource Usage; PortStyle: Single Pin Version
pins: I0 (in), I1 (in), I2 (in), O (out)

## XNOR3S
designator U?
3-Input Exclusive-NOR Gate, Single Pin Version; XilinxEquivalent: XNOR3; FunctionalClass: Logic Primitive; SubClass: XNOR; PortSize: 3; ArchiveName: GENERIC; VHDLIB_SIM: GENERIC_LIB; Published: 29-Jan-2004; Publisher: Altium Limited; LastRevisionNo: 1.00.00; HelpURL: CR0118 FPGA Generic Library Guide.pdf#page=445; ComponentLink1URL: CR0136 FPGA Logic Primitive Resource Usage.pdf#page=260; ComponentLink1Description: Core &Resource Usage; PortStyle: Single Pin Version
pins: I0 (in), I1 (in), I2 (in), O (out)

## XNOR4B
designator U?
4-Input Exclusive-NOR Gate, Bus Version; FunctionalClass: Logic Primitive; SubClass: XNOR; PortSize: 4; ArchiveName: GENERIC; VHDLIB_SIM: GENERIC_LIB; Published: 29-Jan-2004; Publisher: Altium Limited; LastRevisionNo: 1.00.00; HelpURL: CR0118 FPGA Generic Library Guide.pdf#page=445; ComponentLink1URL: CR0136 FPGA Logic Primitive Resource Usage.pdf#page=261; ComponentLink1Description: Core &Resource Usage; PortStyle: Bus Version
pins: I[3..0] (in), O (out)

## XNOR4N1B
designator U?
4-Input Exclusive-NOR Gate with Active Low A Input, Bus Version; FunctionalClass: Logic Primitive; SubClass: XNOR; PortSize: 4; ArchiveName: GENERIC; VHDLIB_SIM: GENERIC_LIB; Published: 29-Jan-2004; Publisher: Altium Limited; LastRevisionNo: 1.00.00; HelpURL: CR0118 FPGA Generic Library Guide.pdf#page=445; ComponentLink1URL: CR0136 FPGA Logic Primitive Resource Usage.pdf#page=262; ComponentLink1Description: Core &Resource Usage; PortStyle: Bus Version
pins: I[3..0] (in), O (out)
text: I0

## XNOR4N1S
designator U?
4-Input Exclusive-NOR Gate with Active Low A Input, Single Pin Version; XilinxEquivalent: XNOR4B1; FunctionalClass: Logic Primitive; SubClass: XNOR; PortSize: 4; ArchiveName: GENERIC; VHDLIB_SIM: GENERIC_LIB; Published: 29-Jan-2004; Publisher: Altium Limited; LastRevisionNo: 1.00.00; HelpURL: CR0118 FPGA Generic Library Guide.pdf#page=445; ComponentLink1URL: CR0136 FPGA Logic Primitive Resource Usage.pdf#page=263; ComponentLink1Description: Core &Resource Usage; PortStyle: Single Pin Version
pins: I0 (in), I1 (in), I2 (in), I3 (in), O (out)

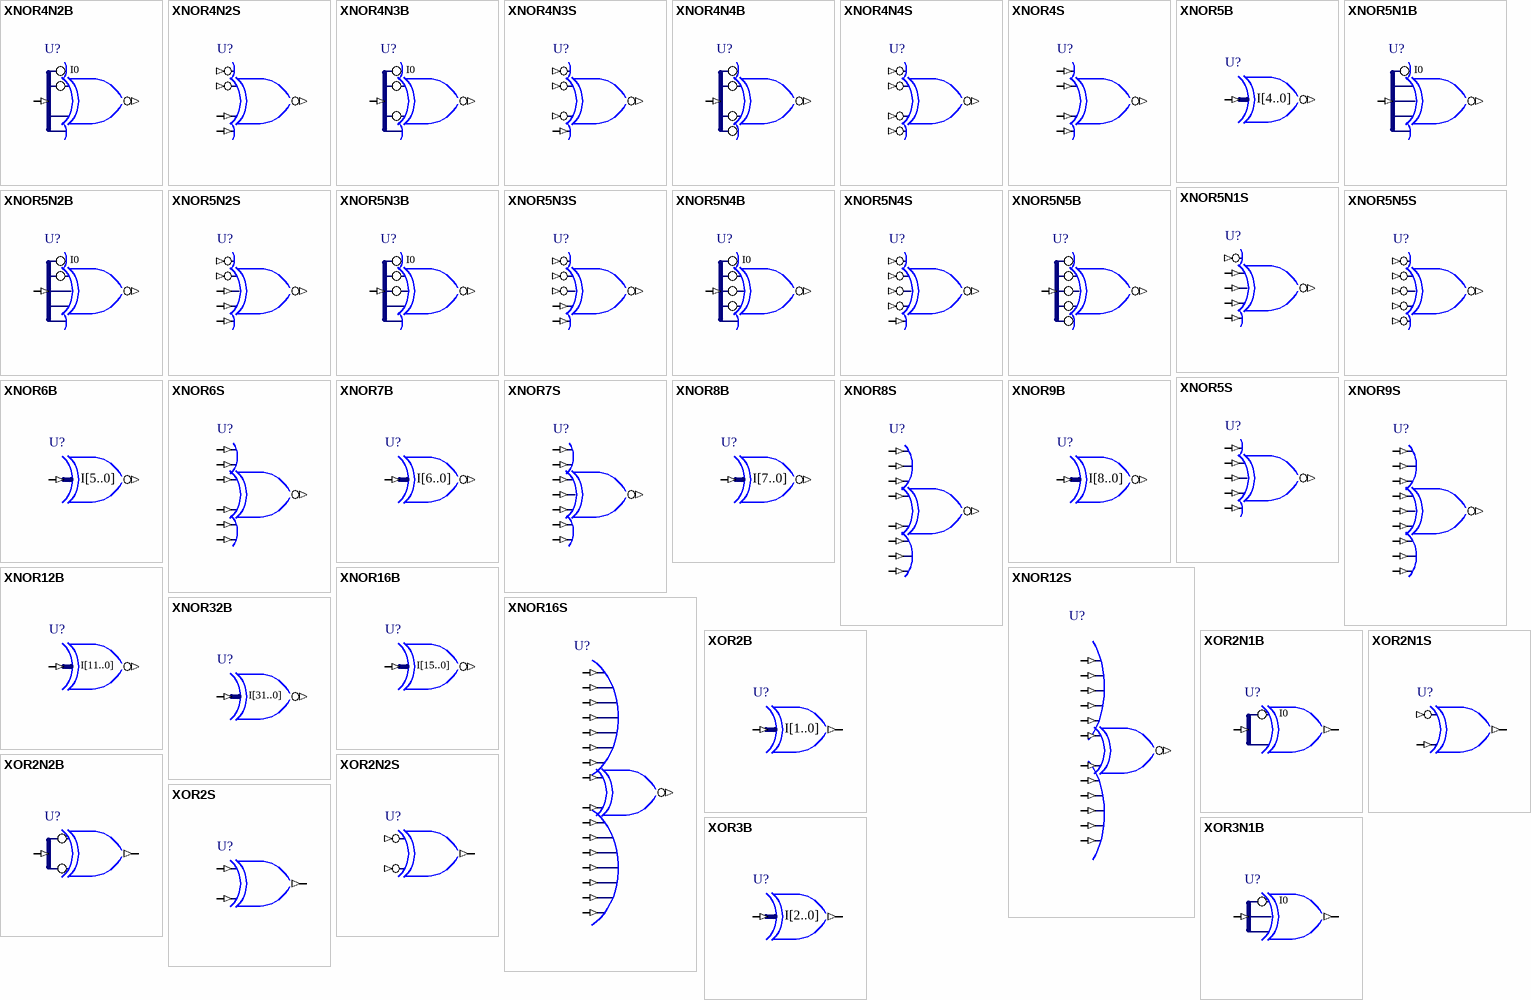
[diagram p41: symbols XNOR4N2B to XOR3N1B]

## XNOR4N2B
designator U?
4-Input Exclusive-NOR Gate with Active Low A and B Inputs, Bus Version; FunctionalClass: Logic Primitive; SubClass: XNOR; PortSize: 4; ArchiveName: GENERIC; VHDLIB_SIM: GENERIC_LIB; Published: 29-Jan-2004; Publisher: Altium Limited; LastRevisionNo: 1.00.00; HelpURL: CR0118 FPGA Generic Library Guide.pdf#page=445; ComponentLink1URL: CR0136 FPGA Logic Primitive Resource Usage.pdf#page=264; ComponentLink1Description: Core &Resource Usage; PortStyle: Bus Version
pins: I[3..0] (in), O (out)
text: I0

## XNOR4N2S
designator U?
4-Input Exclusive-NOR Gate with Active Low A and B Inputs, Single Pin Version; XilinxEquivalent: XNOR4B2; FunctionalClass: Logic Primitive; SubClass: XNOR; PortSize: 4; ArchiveName: GENERIC; VHDLIB_SIM: GENERIC_LIB; Published: 29-Jan-2004; Publisher: Altium Limited; LastRevisionNo: 1.00.00; HelpURL: CR0118 FPGA Generic Library Guide.pdf#page=445; ComponentLink1URL: CR0136 FPGA Logic Primitive Resource Usage.pdf#page=265; ComponentLink1Description: Core &Resource Usage; PortStyle: Single Pin Version
pins: I0 (in), I1 (in), I2 (in), I3 (in), O (out)

## XNOR4N3B
designator U?
4-Input Exclusive-NOR Gate with Active Low A, B and C Inputs, Bus Version; FunctionalClass: Logic Primitive; SubClass: XNOR; PortSize: 4; ArchiveName: GENERIC; VHDLIB_SIM: GENERIC_LIB; Published: 29-Jan-2004; Publisher: Altium Limited; LastRevisionNo: 1.00.00; HelpURL: CR0118 FPGA Generic Library Guide.pdf#page=445; ComponentLink1URL: CR0136 FPGA Logic Primitive Resource Usage.pdf#page=266; ComponentLink1Description: Core &Resource Usage; PortStyle: Bus Version
pins: I[3..0] (in), O (out)
text: I0

## XNOR4N3S
designator U?
4-Input Exclusive-NOR Gate with Active Low A, B and C Inputs, Single Pin Version; XilinxEquivalent: XNOR4B3; FunctionalClass: Logic Primitive; SubClass: XNOR; PortSize: 4; ArchiveName: GENERIC; VHDLIB_SIM: GENERIC_LIB; Published: 29-Jan-2004; Publisher: Altium Limited; LastRevisionNo: 1.00.00; HelpURL: CR0118 FPGA Generic Library Guide.pdf#page=445; ComponentLink1URL: CR0136 FPGA Logic Primitive Resource Usage.pdf#page=267; ComponentLink1Description: Core &Resource Usage; PortStyle: Single Pin Version
pins: I0 (in), I1 (in), I2 (in), I3 (in), O (out)

## XNOR4N4B
designator U?
4-Input Exclusive-NOR Gate with Active Low A, B, C and D Inputs, Bus Version; FunctionalClass: Logic Primitive; SubClass: XNOR; PortSize: 4; ArchiveName: GENERIC; VHDLIB_SIM: GENERIC_LIB; Published: 29-Jan-2004; Publisher: Altium Limited; LastRevisionNo: 1.00.00; HelpURL: CR0118 FPGA Generic Library Guide.pdf#page=445; ComponentLink1URL: CR0136 FPGA Logic Primitive Resource Usage.pdf#page=268; ComponentLink1Description: Core &Resource Usage; PortStyle: Bus Version
pins: I[3..0] (in), O (out)

## XNOR4N4S
designator U?
4-Input Exclusive-NOR Gate with Active Low A, B, C and D Inputs, Single Pin Version; XilinxEquivalent: XNOR4B4; FunctionalClass: Logic Primitive; SubClass: XNOR; PortSize: 4; ArchiveName: GENERIC; VHDLIB_SIM: GENERIC_LIB; Published: 29-Jan-2004; Publisher: Altium Limited; LastRevisionNo: 1.00.00; HelpURL: CR0118 FPGA Generic Library Guide.pdf#page=445; ComponentLink1URL: CR0136 FPGA Logic Primitive Resource Usage.pdf#page=269; ComponentLink1Description: Core &Resource Usage; PortStyle: Single Pin Version
pins: I0 (in), I1 (in), I2 (in), I3 (in), O (out)

## XNOR4S
designator U?
4-Input Exclusive-NOR Gate, Single Pin Version; XilinxEquivalent: XNOR4; FunctionalClass: Logic Primitive; SubClass: XNOR; PortSize: 4; ArchiveName: GENERIC; VHDLIB_SIM: GENERIC_LIB; Published: 29-Jan-2004; Publisher: Altium Limited; LastRevisionNo: 1.00.00; HelpURL: CR0118 FPGA Generic Library Guide.pdf#page=445; ComponentLink1URL: CR0136 FPGA Logic Primitive Resource Usage.pdf#page=270; ComponentLink1Description: Core &Resource Usage; PortStyle: Single Pin Version
pins: I0 (in), I1 (in), I2 (in), I3 (in), O (out)

## XNOR5B
designator U?
5-Input Exclusive-NOR Gate, Bus Version; FunctionalClass: Logic Primitive; SubClass: XNOR; PortSize: 5; ArchiveName: GENERIC; VHDLIB_SIM: GENERIC_LIB; Published: 29-Jan-2004; Publisher: Altium Limited; LastRevisionNo: 1.00.00; HelpURL: CR0118 FPGA Generic Library Guide.pdf#page=445; ComponentLink1URL: CR0136 FPGA Logic Primitive Resource Usage.pdf#page=271; ComponentLink1Description: Core &Resource Usage; PortStyle: Bus Version
pins: I[4..0] (in), O (out)

## XNOR5N1B
designator U?
5-Input Exclusive-NOR Gate with Active Low A Input, Bus Version; FunctionalClass: Logic Primitive; SubClass: XNOR; PortSize: 5; ArchiveName: GENERIC; VHDLIB_SIM: GENERIC_LIB; Published: 29-Jan-2004; Publisher: Altium Limited; LastRevisionNo: 1.00.00; HelpURL: CR0118 FPGA Generic Library Guide.pdf#page=445; ComponentLink1URL: CR0136 FPGA Logic Primitive Resource Usage.pdf#page=272; ComponentLink1Description: Core &Resource Usage; PortStyle: Bus Version
pins: I[4..0] (in), O (out)
text: I0

## XNOR5N1S
designator U?
5-Input Exclusive-NOR Gate with Active Low A Input, Single Pin Version; XilinxEquivalent: XNOR5B1; FunctionalClass: Logic Primitive; SubClass: XNOR; PortSize: 5; ArchiveName: GENERIC; VHDLIB_SIM: GENERIC_LIB; Published: 29-Jan-2004; Publisher: Altium Limited; LastRevisionNo: 1.00.00; HelpURL: CR0118 FPGA Generic Library Guide.pdf#page=445; ComponentLink1URL: CR0136 FPGA Logic Primitive Resource Usage.pdf#page=273; ComponentLink1Description: Core &Resource Usage; PortStyle: Single Pin Version
pins: I0 (in), I1 (in), I2 (in), I3 (in), I4 (in), O (out)

## XNOR5N2B
designator U?
5-Input Exclusive-NOR Gate with Active Low A and B Inputs, Bus Version; FunctionalClass: Logic Primitive; SubClass: XNOR; PortSize: 5; ArchiveName: GENERIC; VHDLIB_SIM: GENERIC_LIB; Published: 29-Jan-2004; Publisher: Altium Limited; LastRevisionNo: 1.00.00; HelpURL: CR0118 FPGA Generic Library Guide.pdf#page=445; ComponentLink1URL: CR0136 FPGA Logic Primitive Resource Usage.pdf#page=274; ComponentLink1Description: Core &Resource Usage; PortStyle: Bus Version
pins: I[4..0] (in), O (out)
text: I0

## XNOR5N2S
designator U?
5-Input Exclusive-NOR Gate with Active Low A and B Inputs, Single Pin Version; XilinxEquivalent: XNOR5B2; FunctionalClass: Logic Primitive; SubClass: XNOR; PortSize: 5; ArchiveName: GENERIC; VHDLIB_SIM: GENERIC_LIB; Published: 29-Jan-2004; Publisher: Altium Limited; LastRevisionNo: 1.00.00; HelpURL: CR0118 FPGA Generic Library Guide.pdf#page=445; ComponentLink1URL: CR0136 FPGA Logic Primitive Resource Usage.pdf#page=275; ComponentLink1Description: Core &Resource Usage; PortStyle: Single Pin Version
pins: I0 (in), I1 (in), I2 (in), I3 (in), I4 (in), O (out)

## XNOR5N3B
designator U?
5-Input Exclusive-NOR Gate with Active Low A, B and C Inputs, Bus Version; FunctionalClass: Logic Primitive; SubClass: XNOR; PortSize: 5; ArchiveName: GENERIC; VHDLIB_SIM: GENERIC_LIB; Published: 29-Jan-2004; Publisher: Altium Limited; LastRevisionNo: 1.00.00; HelpURL: CR0118 FPGA Generic Library Guide.pdf#page=445; ComponentLink1URL: CR0136 FPGA Logic Primitive Resource Usage.pdf#page=276; ComponentLink1Description: Core &Resource Usage; PortStyle: Bus Version
pins: I[4..0] (in), O (out)
text: I0

## XNOR5N3S
designator U?
5-Input Exclusive-NOR Gate with Active Low A, B and C Inputs, Single Pin Version; XilinxEquivalent: XNOR5B3; FunctionalClass: Logic Primitive; SubClass: XNOR; PortSize: 5; ArchiveName: GENERIC; VHDLIB_SIM: GENERIC_LIB; Published: 29-Jan-2004; Publisher: Altium Limited; LastRevisionNo: 1.00.00; HelpURL: CR0118 FPGA Generic Library Guide.pdf#page=445; ComponentLink1URL: CR0136 FPGA Logic Primitive Resource Usage.pdf#page=277; ComponentLink1Description: Core &Resource Usage; PortStyle: Single Pin Version
pins: I0 (in), I1 (in), I2 (in), I3 (in), I4 (in), O (out)

## XNOR5N4B
designator U?
5-Input Exclusive-NOR Gate with Active Low A, B, C and D Inputs, Bus Version; FunctionalClass: Logic Primitive; SubClass: XNOR; PortSize: 5; ArchiveName: GENERIC; VHDLIB_SIM: GENERIC_LIB; Published: 29-Jan-2004; Publisher: Altium Limited; LastRevisionNo: 1.00.00; HelpURL: CR0118 FPGA Generic Library Guide.pdf#page=445; ComponentLink1URL: CR0136 FPGA Logic Primitive Resource Usage.pdf#page=278; ComponentLink1Description: Core &Resource Usage; PortStyle: Bus Version
pins: I[4..0] (in), O (out)
text: I0

## XNOR5N4S
designator U?
5-Input Exclusive-NOR Gate with Active Low A, B, C and D Inputs, Single Pin Version; XilinxEquivalent: XNOR5B4; FunctionalClass: Logic Primitive; SubClass: XNOR; PortSize: 5; ArchiveName: GENERIC; VHDLIB_SIM: GENERIC_LIB; Published: 29-Jan-2004; Publisher: Altium Limited; LastRevisionNo: 1.00.00; HelpURL: CR0118 FPGA Generic Library Guide.pdf#page=445; ComponentLink1URL: CR0136 FPGA Logic Primitive Resource Usage.pdf#page=279; ComponentLink1Description: Core &Resource Usage; PortStyle: Single Pin Version
pins: I0 (in), I1 (in), I2 (in), I3 (in), I4 (in), O (out)